# Altium schematic symbol library Resistors_other.SchLib: 8 symbols
Pins are listed as number, name and electrical type; pins without a type are passive.

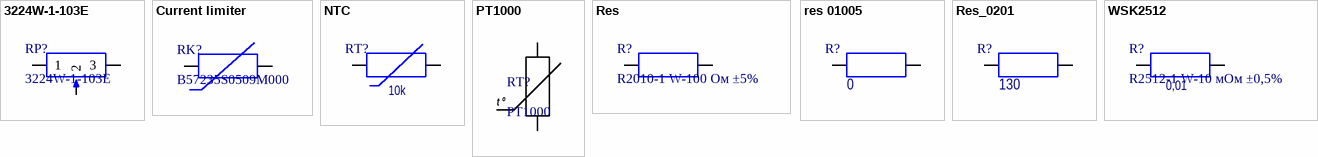
[diagram p0: symbols 3224W-1-103E to WSK2512]

## 3224W-1-103E
designator RP?
Trimmer Resistors - SMD 4mm 10Kohms 10% Square Cermet Sealed
footprint 3224W-1-103E
pins: 1, 2, 3

## Current limiter
designator RK?, comment B57235S0509M000
footprint Current limiter
pins: 1, 2

## NTC
designator RT?, comment value 10k  (hidden comment: 0,1 W-10 кОм ±1%)
0.1 W-10 кОм ±1%
footprint NTC
pins: 1, 2

## PT1000
designator RT?
pins: 1, 2
text: o; t

## Res
designator R?, comment R2010-1 W-100 Ом ±5%
Value: 100
footprint Res_1210
footprint res_2512
pins: 1, 2

## res 01005
designator R?, comment value 0  (hidden comment: R01005-0 Ом±0.1%)
RES 0 OHM  01005 SMD
footprint RESC_01005
pins: 1, 2

## Res_0201
designator R?, comment value 130  (hidden comment: R0201-0,005-130 Ом±0.1%)
RES 130 OHM 1/20W 0.1% 0201 SMD
footprint RES_0201
pins: 1, 2

## WSK2512
designator R?, comment R2512-1 W-10 мОм ±0,5%  value 0,01
R2010-1 W-10 мОм ±0,5%
footprint WSK2512
pins: 1, 2